# Altium schematic symbol library Светодиоды.SchLib: 2 symbols
Pins are listed as number, name and electrical type; pins without a type are passive.

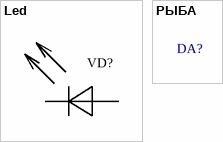
[diagram p0: symbols Led to РЫБА]

## Led
designator VD?  (value not drawn)
pins: 1, 2

## РЫБА
designator DA?  (value not drawn)
Rem: *; Package: *; Value: *; Tolerance: *; Power/Voltage: *; TKE: *; ManufacturerPartNumber: *; Manufacturer: *; Quantity: *; Примечание: *